# EAGLE library part SD-CARD (library modules)
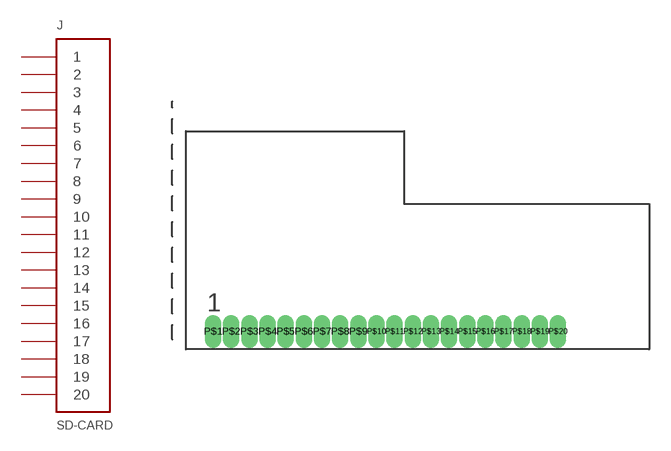
[diagram p10: symbol with the pads of SD-CARD; footprint SD-CARD]

Designator prefix J

## SD-CARDREV1  [SD-CARD]
P$1  1
P$2  2
P$3  3
P$4  4
P$5  5
P$6  6
P$7  7
P$8  8
P$9  9
P$10  10
P$11  11
P$12  12
P$13  13
P$14  14
P$15  15
P$16  16
P$17  17
P$18  18
P$19  19
P$20  20

## Footprint SD-CARD (pad centres in mm)
drill 0.66 pad 1.016 long: P$1 -10.175,-0.02; P$2 -8.905,-0.02; P$3 -7.635,-0.02; P$4 -6.365,-0.02; P$5 -5.095,-0.02; P$6 -3.825,-0.02; P$7 -2.555,-0.02; P$8 -1.285,-0.02; P$9 -0.015,-0.02; P$10 1.255,-0.02; P$11 2.525,-0.02; P$12 3.795,-0.02; P$13 5.065,-0.02; P$14 6.335,-0.02; P$15 7.605,-0.02; P$16 8.875,-0.02; P$17 10.145,-0.02; P$18 11.415,-0.02; P$19 12.685,-0.02; P$20 13.955,-0.02